# Altium footprint library Hall Current Sensor.PcbLib: 3 footprints
Each footprint in its own frame and in the unit in brackets; x right, y up, seen from the top. Pads: shape width x height; smd on the part's side, far side on the other; paste and mask are expansions set on the pad; w line width, h text height; cw(c..) or ccw(c..) is an arc to the next point about the centre after c.
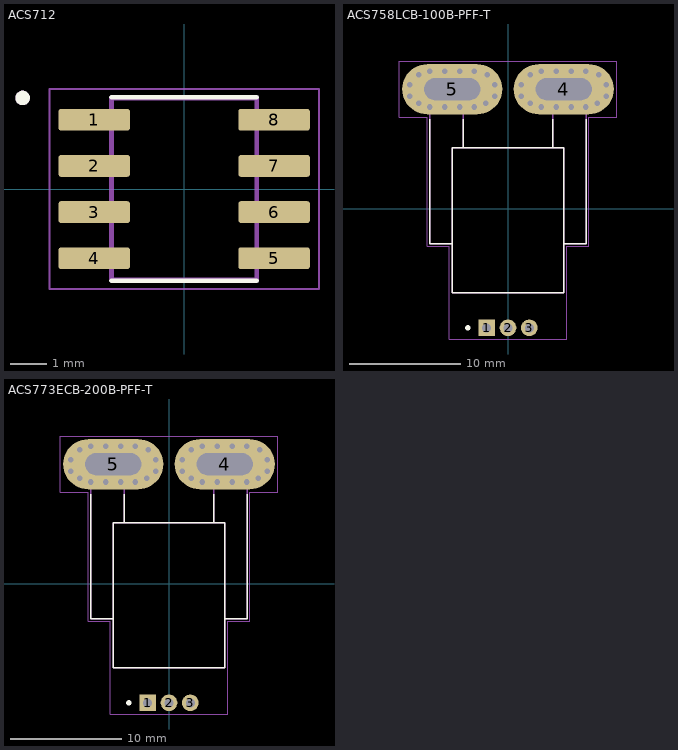
[diagram p0: the footprints below, top view; thin cyan lines are the x and y axes]

## ACS712 [mm]
pads (8):
  rrect25% 1.97x0.6 smd: 1(-2.475,1.905) 2(-2.475,0.635) 3(-2.475,-0.635) 4(-2.475,-1.905) 5(2.475,-1.905) 6(2.475,-0.635) 7(2.475,0.635) 8(2.475,1.905)
Top Overlay:
  circle w0.2: c-4.445,2.505 r0.1
  lines w0.127: -2,-2.525 2,-2.525 ; -2,2.525 2,2.525
Mechanical 13:
  circle w0.2: c-4.445,2.505 r0.1
  lines w0.127: -2,-2.5 -2,2.5 2,2.5 2,-2.5 -2,-2.5
Mechanical 15:
  lines w0.05: -3.71,-2.75 -3.71,2.75 3.71,2.75 3.71,-2.75 -3.71,-2.75
3D body "step_temp.STEP": height 1.75, standoff 0, extent -3,-2.45 3,2.45

## ACS758LCB-100B-PFF-T [mm]
pads (37):
  rect 1.5x1.5 / inner round 1.5 / far side rect 1.5x1.5 hole 0.8: 1(-1.91,-10.7)
  round 1.5 hole 0.8: 2(0,-10.7) 3(1.91,-10.7)
  oval 9x4.5 hole 2 slot 5 at 0 deg: 4(5,10.7) 5(-5,10.7)
  round 0.8 hole 0.5: 4_1(3,9.1) 4_2(4.33,9.1) 4_3(5.66,9.1) 4_4(6.99,9.1) 4_5(8,9.43) 4_6(8.8,10.05) 4_7(8.8,11.1) 4_8(8.15,12) 4_9(6.99,12.3) 4_10(5.66,12.3) 4_11(4.33,12.3) 4_12(3,12.3) 4_13(2,12) 4_14(1.2,11.1) 4_15(1.2,10.05) 4_16(2,9.43) 5_1(-7,9.1) 5_2(-5.67,9.1) 5_3(-4.34,9.1) 5_4(-3.01,9.1) 5_5(-8,9.43) 5_6(-8.8,10.05) 5_7(-8.8,11.1) 5_8(-8,12) 5_9(-7,12.3) 5_10(-5.67,12.3) 5_11(-4.34,12.3) 5_12(-3.01,12.3) 5_13(-1.85,12) 5_14(-1.2,11.1) 5_15(-1.2,10.05) 5_16(-2,9.43)
Top Overlay:
  circle w0.24: c-3.6,-10.7 r0.12
  lines w0.127: -7,8 -7,-3.15 -5,-3.15 ; -4,8 -4,5.45 ; 4,8 4,5.45 ; 7,8 7,-3.15 5,-3.15 ; -5,-3.15 -5,5.45 -4,5.45 ; -5,-3.15 -5,-7.55 5,-7.55 5,-3.15 ; -4,5.45 4,5.45 ; 4,5.45 5,5.45 5,-3.15
Mechanical 1:
  lines w0: -5,11.7 -4.95,11.7 ; 5,11.7 5.05,11.7 ; -7,9.7 cw(c-7,10.7) -7,11.7 -3,11.7 cw(c-3,10.7) -3,9.7 -7,9.7 ; 3,9.7 cw(c3,10.7) 3,11.7 7,11.7 cw(c7,10.7) 7,9.7 3,9.7
Mechanical 13:
  lines w0.127: -5,-3.15 -7,-3.15 -7,11.45 -4,11.45 -4,5.45 ; -5,-3.15 -5,5.45 -4,5.45 ; -5,-3.15 -5,-7.55 5,-7.55 5,-3.15 ; -4,5.45 4,5.45 ; 4,5.45 4,11.45 7,11.45 7,-3.15 5,-3.15 ; 4,5.45 5,5.45 5,-3.15
Mechanical 15:
  lines w0.05: -9.75,8.2 -9.75,13.2 9.75,13.2 9.75,8.2 7.25,8.2 7.25,-3.4 5.25,-3.4 5.25,-11.7 -5.25,-11.7 -5.25,-3.4 -7.25,-3.4 -7.25,8.2 -9.75,8.2
3D body "step_temp.STEP": height 8, standoff -3.7, extent -7,-11.153 7,11.45

## ACS773ECB-200B-PFF-T [mm]
pads (37):
  rect 1.5x1.5 / inner round 1.5 / far side rect 1.5x1.5 hole 0.8: 1(-1.91,-10.7)
  round 1.5 hole 0.8: 2(0,-10.7) 3(1.91,-10.7)
  oval 9x4.5 hole 2 slot 5 at 0 deg: 4(5,10.7) 5(-5,10.7)
  round 0.8 hole 0.5: 4_1(3,9.1) 4_2(4.33,9.1) 4_3(5.66,9.1) 4_4(6.99,9.1) 4_5(8,9.43) 4_6(8.8,10.05) 4_7(8.8,11.1) 4_8(8.15,12) 4_9(6.99,12.3) 4_10(5.66,12.3) 4_11(4.33,12.3) 4_12(3,12.3) 4_13(2,12) 4_14(1.2,11.1) 4_15(1.2,10.05) 4_16(2,9.43) 5_1(-7,9.1) 5_2(-5.67,9.1) 5_3(-4.34,9.1) 5_4(-3.01,9.1) 5_5(-8,9.43) 5_6(-8.8,10.05) 5_7(-8.8,11.1) 5_8(-8,12) 5_9(-7,12.3) 5_10(-5.67,12.3) 5_11(-4.34,12.3) 5_12(-3.01,12.3) 5_13(-1.85,12) 5_14(-1.2,11.1) 5_15(-1.2,10.05) 5_16(-2,9.43)
Top Overlay:
  circle w0.24: c-3.6,-10.7 r0.12
  lines w0.127: -7,8 -7,-3.15 -5,-3.15 ; -4,8 -4,5.45 ; 4,8 4,5.45 ; 7,8 7,-3.15 5,-3.15 ; -5,-3.15 -5,-7.55 5,-7.55 5,-3.15 ; -5,-3.15 -5,5.45 -4,5.45 ; -4,5.45 4,5.45 ; 4,5.45 5,5.45 5,-3.15
Mechanical 1:
  lines w0: -5,11.7 -4.95,11.7 ; 5,11.7 5.05,11.7 ; -7,9.7 cw(c-7,10.7) -7,11.7 -3,11.7 cw(c-3,10.7) -3,9.7 -7,9.7 ; 3,9.7 cw(c3,10.7) 3,11.7 7,11.7 cw(c7,10.7) 7,9.7 3,9.7
Mechanical 13:
  lines w0.127: -5,-3.15 -5,-7.55 5,-7.55 5,-3.15 ; -5,-3.15 -5,5.45 -4,5.45 ; -5,-3.15 -7,-3.15 -7,11.45 -4,11.45 -4,5.45 ; -4,5.45 4,5.45 ; 4,5.45 5,5.45 5,-3.15 ; 4,5.45 4,11.45 7,11.45 7,-3.15 5,-3.15
Mechanical 15:
  lines w0.05: -9.75,8.2 -7.25,8.2 -7.25,-3.4 -5.25,-3.4 -5.25,-11.7 5.25,-11.7 5.25,-3.4 7.25,-3.4 7.25,8.2 9.75,8.2 9.75,13.2 -9.75,13.2 -9.75,8.2
3D body "step_temp.STEP": height 8, standoff -3.7, extent -7,-11.153 7,11.45